# EAGLE library part 74AC11373 (library 74ac-logic)
Octal transparent D-type LATCH, 3-state
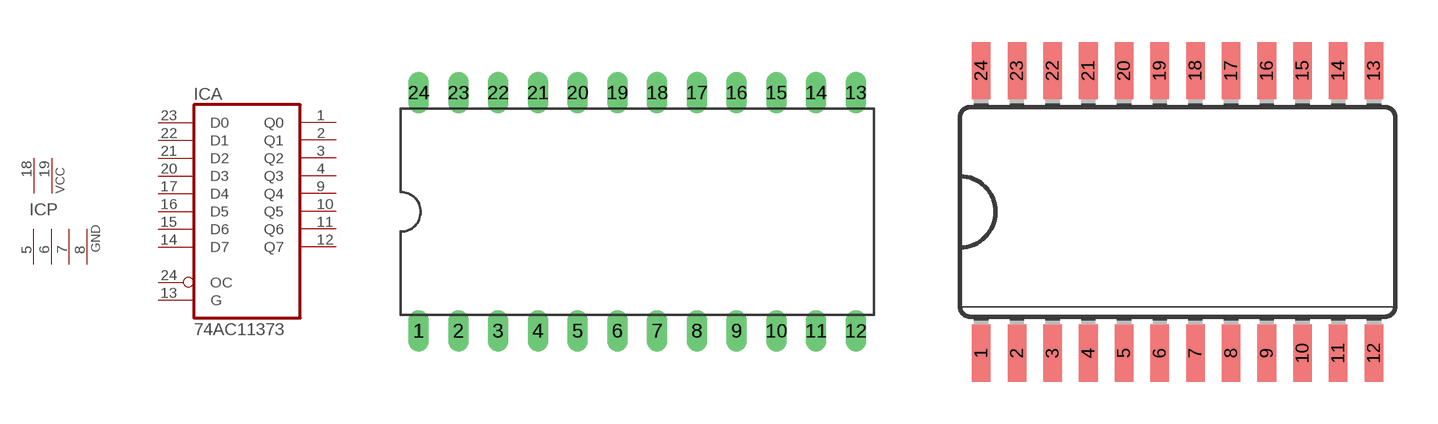
[diagram p43: symbol with the pads of DIL24-6; footprints DIL24-6, SO24W]

Designator prefix IC; gates A=7411373 P=2PWR4GND

## 74AC11373  [DIL24-6]
1  A:Q0  hiz
2  A:Q1  hiz
3  A:Q2  hiz
4  A:Q3  hiz
5  P:GND  pwr
6  P:GND  pwr
7  P:GND  pwr
8  P:GND  pwr
9  A:Q4  hiz
10  A:Q5  hiz
11  A:Q6  hiz
12  A:Q7  hiz
13  A:G  in
14  A:D7  in
15  A:D6  in
16  A:D5  in
17  A:D4  in
18  P:VCC  pwr
19  P:VCC  pwr
20  A:D3  in
21  A:D2  in
22  A:D1  in
23  A:D0  in
24  A:OC  in

## 74AC11373D  [SO24W]
Pads as for DIL24-6

## Footprint DIL24-6 (pad centres in mm)
Dual In Line Package 0.6 inch
drill 0.813 long: 1 -13.97,-7.62; 2 -11.43,-7.62; 3 -8.89,-7.62; 4 -6.35,-7.62; 5 -3.81,-7.62; 6 -1.27,-7.62; 7 1.27,-7.62; 8 3.81,-7.62; 9 6.35,-7.62; 10 8.89,-7.62; 11 11.43,-7.62; 12 13.97,-7.62; 13 13.97,7.62; 14 11.43,7.62; 15 8.89,7.62; 16 6.35,7.62; 17 3.81,7.62; 18 1.27,7.62; 19 -1.27,7.62; 20 -3.81,7.62; 21 -6.35,7.62; 22 -8.89,7.62; 23 -11.43,7.62; 24 -13.97,7.62

## Footprint SO24W (pad centres in mm)
Small Outline Package 24 wide
smd 0.66 x 2.032: 1 -6.985,-5.029; 2 -5.715,-5.029; 3 -4.445,-5.029; 4 -3.175,-5.029; 5 -1.905,-5.029; 6 -0.635,-5.029; 7 0.635,-5.029; 8 1.905,-5.029; 9 3.175,-5.029; 10 4.445,-5.029; 11 5.715,-5.029; 12 6.985,-5.029; 13 6.985,5.029; 14 5.715,5.029; 15 4.445,5.029; 16 3.175,5.029; 17 1.905,5.029; 18 0.635,5.029; 19 -0.635,5.029; 20 -1.905,5.029; 21 -3.175,5.029; 22 -4.445,5.029; 23 -5.715,5.029; 24 -6.985,5.029